# Altium footprint library Texas Instruments Footprints.PcbLib: 429 footprints (part 24 of 32)
Each footprint in its own frame and in the unit in brackets; x right, y up, seen from the top. Pads: shape width x height; smd on the part's side, far side on the other; paste and mask are expansions set on the pad; w line width, h text height; cw(c..) or ccw(c..) is an arc to the next point about the centre after c.
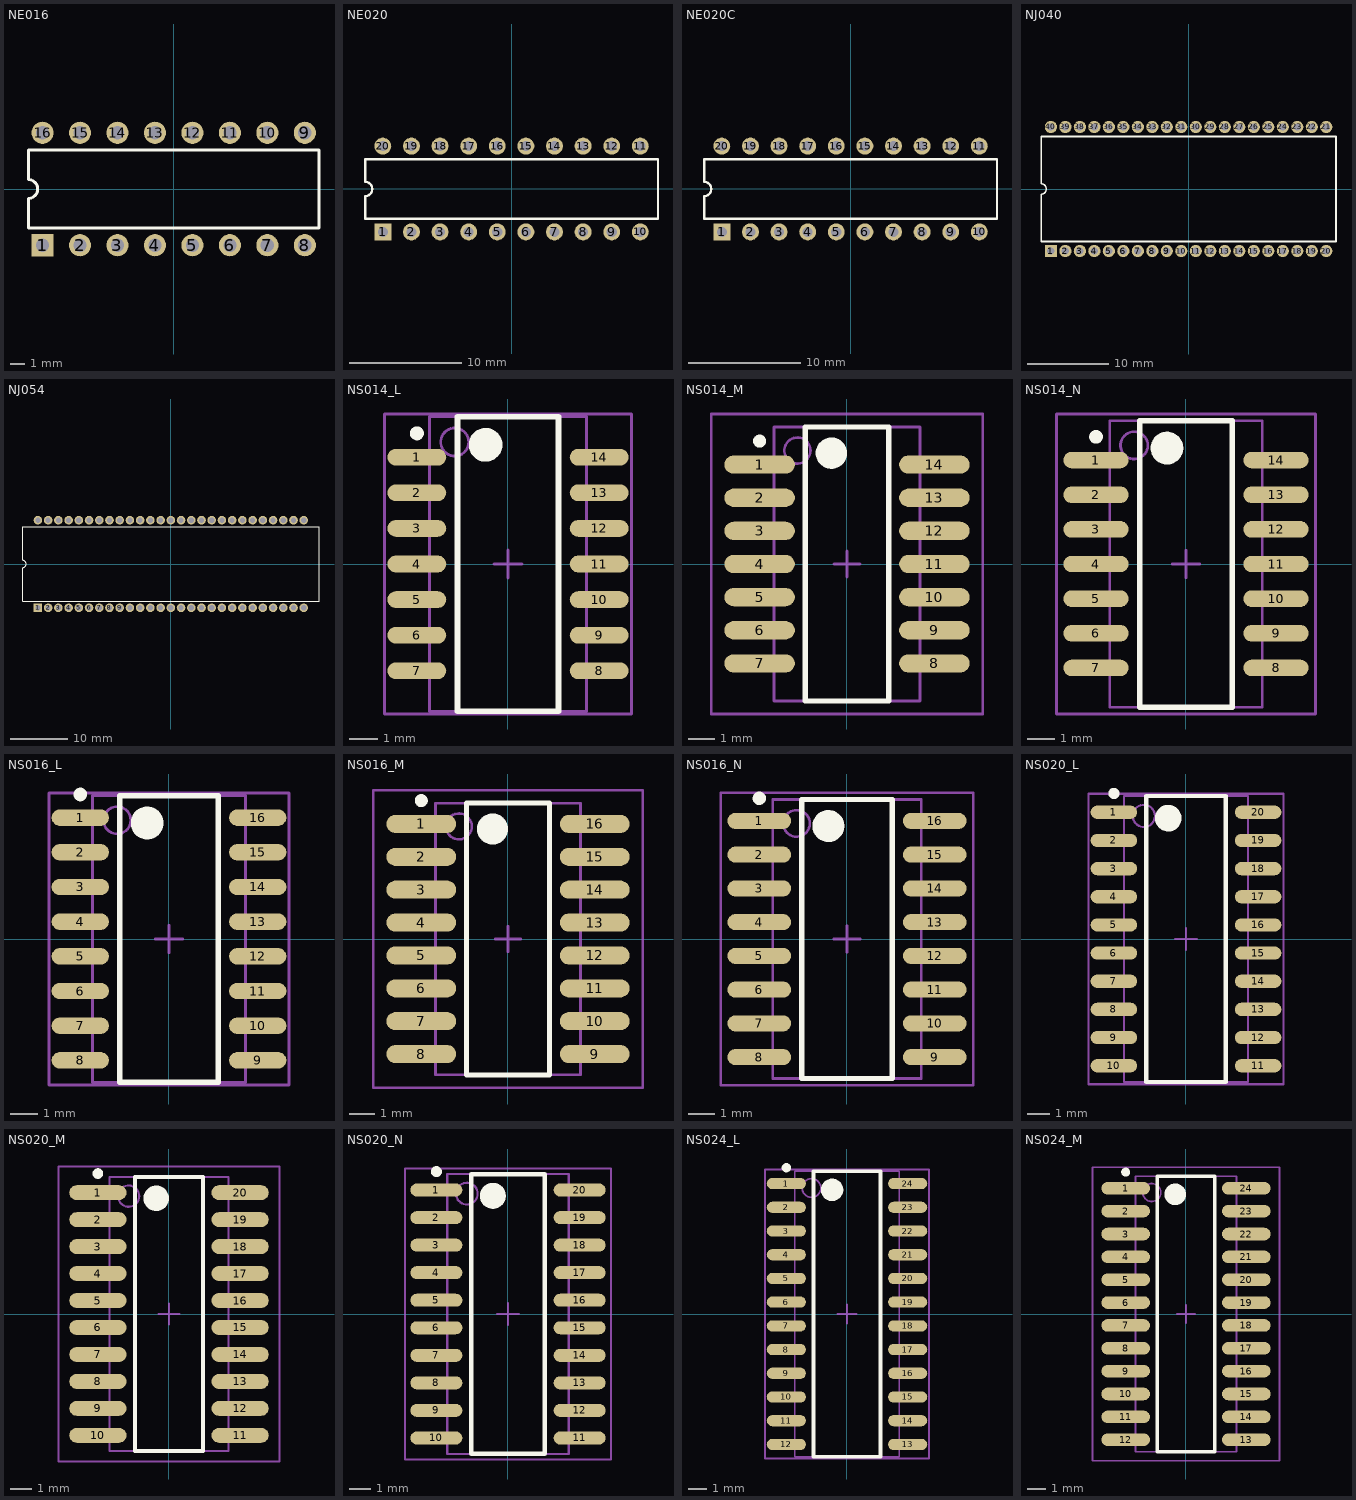
[diagram p23: the footprints below, top view; thin cyan lines are the x and y axes]

## NE016 [mm] "DIP; 16 Leads; Row Spacing 7.62 mm; Pitch 2.54 mm"
height 5.08
pads (16):
  rect 1.5x1.5 hole 0.9: 1(-8.89,-3.81)
  round 1.5 hole 0.9: 2(-6.35,-3.81) 3(-3.81,-3.81) 4(-1.27,-3.81) 5(1.27,-3.81) 6(3.81,-3.81) 7(6.35,-3.81) 8(8.89,-3.81) 9(8.89,3.81) 10(6.35,3.81) 11(3.81,3.81) 12(1.27,3.81) 13(-1.27,3.81) 14(-3.81,3.81) 15(-6.35,3.81) 16(-8.89,3.81)
Top Overlay:
  lines w0.2: -9.85,-2.65 9.85,-2.65 9.85,2.65 -9.85,2.65 -9.85,0.635 cw(c-9.85,0) -9.85,-0.635 -9.85,-2.65

## NE020 [mm] "DIP; 20 Leads; Row Spacing 7.62 mm; Pitch 2.54 mm"
height 5.08
pads (20):
  rect 1.5x1.5 hole 0.9: 1(-11.43,-3.81)
  round 1.5 hole 0.9: 2(-8.89,-3.81) 3(-6.35,-3.81) 4(-3.81,-3.81) 5(-1.27,-3.81) 6(1.27,-3.81) 7(3.81,-3.81) 8(6.35,-3.81) 9(8.89,-3.81) 10(11.43,-3.81) 11(11.43,3.81) 12(8.89,3.81) 13(6.35,3.81) 14(3.81,3.81) 15(1.27,3.81) 16(-1.27,3.81) 17(-3.81,3.81) 18(-6.35,3.81) 19(-8.89,3.81) 20(-11.43,3.81)
Top Overlay:
  lines w0.2: -13,-2.65 -13,-0.635 ccw(c-13,0) -13,0.635 -13,2.65 13,2.65 13,-2.65 -13,-2.65

## NE020C [mm] "DIP; 20 Leads; Row Spacing 7.62 mm; Pitch 2.54 mm"
height 5.08
pads (20):
  rect 1.5x1.5 hole 0.9: 1(-11.43,-3.81)
  round 1.5 hole 0.9: 2(-8.89,-3.81) 3(-6.35,-3.81) 4(-3.81,-3.81) 5(-1.27,-3.81) 6(1.27,-3.81) 7(3.81,-3.81) 8(6.35,-3.81) 9(8.89,-3.81) 10(11.43,-3.81) 11(11.43,3.81) 12(8.89,3.81) 13(6.35,3.81) 14(3.81,3.81) 15(1.27,3.81) 16(-1.27,3.81) 17(-3.81,3.81) 18(-6.35,3.81) 19(-8.89,3.81) 20(-11.43,3.81)
Top Overlay:
  lines w0.2: -13,-2.65 -13,-0.635 ccw(c-13,0) -13,0.635 -13,2.65 13,2.65 13,-2.65 -13,-2.65

## NJ040 [mm] "DIP; 40 Leads; Row Spacing 15.24 mm; Pitch 1.78 mm"
height 5.08
pads (40):
  rect 1.5x1.5 hole 0.9: 1(-16.91,-7.62)
  round 1.5 hole 0.9: 2(-15.13,-7.62) 3(-13.35,-7.62) 4(-11.57,-7.62) 5(-9.79,-7.62) 6(-8.01,-7.62) 7(-6.23,-7.62) 8(-4.45,-7.62) 9(-2.67,-7.62) 10(-0.89,-7.62) 11(0.89,-7.62) 12(2.67,-7.62) 13(4.45,-7.62) 14(6.23,-7.62) 15(8.01,-7.62) 16(9.79,-7.62) 17(11.57,-7.62) 18(13.35,-7.62) 19(15.13,-7.62) 20(16.91,-7.62) 21(16.91,7.62) 22(15.13,7.62) 23(13.35,7.62) 24(11.57,7.62) 25(9.79,7.62) 26(8.01,7.62) 27(6.23,7.62) 28(4.45,7.62) 29(2.67,7.62) 30(0.89,7.62) 31(-0.89,7.62) 32(-2.67,7.62) 33(-4.45,7.62) 34(-6.23,7.62) 35(-8.01,7.62) 36(-9.79,7.62) 37(-11.57,7.62) 38(-13.35,7.62) 39(-15.13,7.62) 40(-16.91,7.62)
Top Overlay:
  lines w0.2: -18.1,-6.45 -18.1,-0.635 ccw(c-18.1,0) -18.1,0.635 -18.1,6.45 18.1,6.45 18.1,-6.45 -18.1,-6.45

## NJ054 [mm] "DIP; 54 Leads; Row Spacing 15.24 mm; Pitch 1.78 mm"
height 5.08
pads (54):
  rect 1.5x1.5 hole 0.9: 1(-23.14,-7.62)
  round 1.5 hole 0.9: 2(-21.36,-7.62) 3(-19.58,-7.62) 4(-17.8,-7.62) 5(-16.02,-7.62) 6(-14.24,-7.62) 7(-12.46,-7.62) 8(-10.68,-7.62) 9(-8.9,-7.62) 10(-7.12,-7.62) 11(-5.34,-7.62) 12(-3.56,-7.62) 13(-1.78,-7.62) 14(0,-7.62) 15(1.78,-7.62) 16(3.56,-7.62) 17(5.34,-7.62) 18(7.12,-7.62) 19(8.9,-7.62) 20(10.68,-7.62) 21(12.46,-7.62) 22(14.24,-7.62) 23(16.02,-7.62) 24(17.8,-7.62) 25(19.58,-7.62) 26(21.36,-7.62) 27(23.14,-7.62) 28(23.14,7.62) 29(21.36,7.62) 30(19.58,7.62) 31(17.8,7.62) 32(16.02,7.62) 33(14.24,7.62) 34(12.46,7.62) 35(10.68,7.62) 36(8.9,7.62) 37(7.12,7.62) 38(5.34,7.62) 39(3.56,7.62) 40(1.78,7.62) 41(0,7.62) 42(-1.78,7.62) 43(-3.56,7.62) 44(-5.34,7.62) 45(-7.12,7.62) 46(-8.9,7.62) 47(-10.68,7.62) 48(-12.46,7.62) 49(-14.24,7.62) 50(-16.02,7.62) 51(-17.8,7.62) 52(-19.58,7.62) 53(-21.36,7.62) 54(-23.14,7.62)
Top Overlay:
  lines w0.2: -25.8,-6.45 -25.8,-0.635 ccw(c-25.8,0) -25.8,0.635 -25.8,6.45 25.8,6.45 25.8,-6.45 -25.8,-6.45

## NS014_L [mm] "14-Pin Small Outline Package 1.27 mm Pitch, IPC High Density"
height 2
pads (14):
  oval 2.1x0.6 smd: 1(-3.25,3.81) 2(-3.25,2.54) 3(-3.25,1.27) 4(-3.25,0) 5(-3.25,-1.27) 6(-3.25,-2.54) 7(-3.25,-3.81) 8(3.25,-3.81) 9(3.25,-2.54) 10(3.25,-1.27) 11(3.25,0) 12(3.25,1.27) 13(3.25,2.54) 14(3.25,3.81)
Top Overlay:
  circle w0.25: c-3.25,4.66 r0.125
  circle w0.6: c-0.8,4.25 r0.3
  lines w0.2: -1.8,-5.25 -1.8,5.25 1.8,5.25 1.8,-5.25 -1.8,-5.25
Mechanical 13:
  circle w0.1: c-1.9,4.35 r0.5
  lines w0.1: -2.8,-5.25 -2.8,5.25 2.8,5.25 2.8,-5.25 -2.8,-5.25
Mechanical 15:
  lines w0.1: -0.5,0 0.5,0 ; 0,-0.5 0,0.5 ; -4.4,-5.35 -4.4,5.35 4.4,5.35 4.4,-5.35 -4.4,-5.35
3D body: height 2, standoff 0, extent -2.8,-5.25 2.8,5.25

## NS014_M [mm] "14-Pin Small Outline Package 1.27 mm Pitch, IPC Low Density"
height 2
pads (14):
  oval 2.7x0.7 smd: 1(-3.35,3.81) 2(-3.35,2.54) 3(-3.35,1.27) 4(-3.35,0) 5(-3.35,-1.27) 6(-3.35,-2.54) 7(-3.35,-3.81) 8(3.35,-3.81) 9(3.35,-2.54) 10(3.35,-1.27) 11(3.35,0) 12(3.35,1.27) 13(3.35,2.54) 14(3.35,3.81)
Top Overlay:
  circle w0.6: c-0.6,4.25 r0.3
  circle w0.25: c-3.35,4.71 r0.125
  lines w0.2: -1.6,-5.25 1.6,-5.25 1.6,5.25 -1.6,5.25 -1.6,-5.25
Mechanical 13:
  circle w0.1: c-1.9,4.35 r0.5
  lines w0.1: -2.8,-5.25 2.8,-5.25 2.8,5.25 -2.8,5.25 -2.8,-5.25
Mechanical 15:
  lines w0.1: -0.5,0 0.5,0 ; 0,-0.5 0,0.5 ; -5.2,-5.75 5.2,-5.75 5.2,5.75 -5.2,5.75 -5.2,-5.75
3D body: height 2, standoff 0, extent -2.8,-5.25 2.8,5.25

## NS014_N [mm] "14-Pin Small Outline Package 1.27 mm Pitch, IPC Medium Density"
height 2
pads (14):
  oval 2.4x0.6 smd: 1(-3.3,3.81) 2(-3.3,2.54) 3(-3.3,1.27) 4(-3.3,0) 5(-3.3,-1.27) 6(-3.3,-2.54) 7(-3.3,-3.81) 8(3.3,-3.81) 9(3.3,-2.54) 10(3.3,-1.27) 11(3.3,0) 12(3.3,1.27) 13(3.3,2.54) 14(3.3,3.81)
Top Overlay:
  circle w0.25: c-3.3,4.66 r0.125
  circle w0.6: c-0.7,4.25 r0.3
  lines w0.2: -1.7,-5.25 -1.7,5.25 1.7,5.25 1.7,-5.25 -1.7,-5.25
Mechanical 13:
  circle w0.1: c-1.9,4.35 r0.5
  lines w0.1: -2.8,-5.25 -2.8,5.25 2.8,5.25 2.8,-5.25 -2.8,-5.25
Mechanical 15:
  lines w0.1: -0.5,0 0.5,0 ; 0,-0.5 0,0.5 ; -4.75,-5.5 -4.75,5.5 4.75,5.5 4.75,-5.5 -4.75,-5.5
3D body: height 2, standoff 0, extent -2.8,-5.25 2.8,5.25

## NS016_L [mm] "16-Pin Small Outline Package 1.27 mm Pitch, IPC High Density"
height 2
pads (16):
  oval 2.1x0.6 smd: 1(-3.25,4.445) 2(-3.25,3.175) 3(-3.25,1.905) 4(-3.25,0.635) 5(-3.25,-0.635) 6(-3.25,-1.905) 7(-3.25,-3.175) 8(-3.25,-4.445) 9(3.25,-4.445) 10(3.25,-3.175) 11(3.25,-1.905) 12(3.25,-0.635) 13(3.25,0.635) 14(3.25,1.905) 15(3.25,3.175) 16(3.25,4.445)
Top Overlay:
  circle w0.25: c-3.25,5.295 r0.125
  circle w0.6: c-0.8,4.25 r0.3
  lines w0.2: -1.8,-5.25 -1.8,5.25 1.8,5.25 1.8,-5.25 -1.8,-5.25
Mechanical 13:
  circle w0.1: c-1.9,4.35 r0.5
  lines w0.1: -2.8,-5.25 -2.8,5.25 2.8,5.25 2.8,-5.25 -2.8,-5.25
Mechanical 15:
  lines w0.1: -0.5,0 0.5,0 ; 0,-0.5 0,0.5 ; -4.4,-5.35 -4.4,5.35 4.4,5.35 4.4,-5.35 -4.4,-5.35
3D body: height 2, standoff 0, extent -2.8,-5.25 2.8,5.25

## NS016_M [mm] "16-Pin Small Outline Package 1.27 mm Pitch, IPC Low Density"
height 2
pads (16):
  oval 2.7x0.7 smd: 1(-3.35,4.445) 2(-3.35,3.175) 3(-3.35,1.905) 4(-3.35,0.635) 5(-3.35,-0.635) 6(-3.35,-1.905) 7(-3.35,-3.175) 8(-3.35,-4.445) 9(3.35,-4.445) 10(3.35,-3.175) 11(3.35,-1.905) 12(3.35,-0.635) 13(3.35,0.635) 14(3.35,1.905) 15(3.35,3.175) 16(3.35,4.445)
Top Overlay:
  circle w0.6: c-0.6,4.25 r0.3
  circle w0.25: c-3.35,5.345 r0.125
  lines w0.2: -1.6,-5.25 1.6,-5.25 1.6,5.25 -1.6,5.25 -1.6,-5.25
Mechanical 13:
  circle w0.1: c-1.9,4.35 r0.5
  lines w0.1: -2.8,-5.25 2.8,-5.25 2.8,5.25 -2.8,5.25 -2.8,-5.25
Mechanical 15:
  lines w0.1: -0.5,0 0.5,0 ; 0,-0.5 0,0.5 ; -5.2,-5.75 5.2,-5.75 5.2,5.75 -5.2,5.75 -5.2,-5.75
3D body: height 2, standoff 0, extent -2.8,-5.25 2.8,5.25

## NS016_N [mm] "16-Pin Small Outline Package 1.27 mm Pitch, IPC Medium Density"
height 2
pads (16):
  oval 2.4x0.6 smd: 1(-3.3,4.445) 2(-3.3,3.175) 3(-3.3,1.905) 4(-3.3,0.635) 5(-3.3,-0.635) 6(-3.3,-1.905) 7(-3.3,-3.175) 8(-3.3,-4.445) 9(3.3,-4.445) 10(3.3,-3.175) 11(3.3,-1.905) 12(3.3,-0.635) 13(3.3,0.635) 14(3.3,1.905) 15(3.3,3.175) 16(3.3,4.445)
Top Overlay:
  circle w0.25: c-3.3,5.295 r0.125
  circle w0.6: c-0.7,4.25 r0.3
  lines w0.2: -1.7,-5.25 -1.7,5.25 1.7,5.25 1.7,-5.25 -1.7,-5.25
Mechanical 13:
  circle w0.1: c-1.9,4.35 r0.5
  lines w0.1: -2.8,-5.25 -2.8,5.25 2.8,5.25 2.8,-5.25 -2.8,-5.25
Mechanical 15:
  lines w0.1: -0.5,0 0.5,0 ; 0,-0.5 0,0.5 ; -4.75,-5.5 -4.75,5.5 4.75,5.5 4.75,-5.5 -4.75,-5.5
3D body: height 2, standoff 0, extent -2.8,-5.25 2.8,5.25

## NS020_L [mm] "20-Pin Small Outline Package 1.27 mm Pitch, IPC High Density"
height 2
pads (20):
  oval 2.1x0.6 smd: 1(-3.25,5.715) 2(-3.25,4.445) 3(-3.25,3.175) 4(-3.25,1.905) 5(-3.25,0.635) 6(-3.25,-0.635) 7(-3.25,-1.905) 8(-3.25,-3.175) 9(-3.25,-4.445) 10(-3.25,-5.715) 11(3.25,-5.715) 12(3.25,-4.445) 13(3.25,-3.175) 14(3.25,-1.905) 15(3.25,-0.635) 16(3.25,0.635) 17(3.25,1.905) 18(3.25,3.175) 19(3.25,4.445) 20(3.25,5.715)
Top Overlay:
  circle w0.25: c-3.25,6.565 r0.125
  circle w0.6: c-0.8,5.45 r0.3
  lines w0.2: -1.8,-6.45 -1.8,6.45 1.8,6.45 1.8,-6.45 -1.8,-6.45
Mechanical 13:
  circle w0.1: c-1.9,5.55 r0.5
  lines w0.1: -2.8,-6.45 -2.8,6.45 2.8,6.45 2.8,-6.45 -2.8,-6.45
Mechanical 15:
  lines w0.1: -0.5,0 0.5,0 ; 0,-0.5 0,0.5 ; -4.4,-6.55 -4.4,6.55 4.4,6.55 4.4,-6.55 -4.4,-6.55
3D body: height 2, standoff 0, extent -2.8,-6.45 2.8,6.45

## NS020_M [mm] "20-Pin Small Outline Package 1.27 mm Pitch, IPC Low Density"
height 2
pads (20):
  oval 2.7x0.7 smd: 1(-3.35,5.715) 2(-3.35,4.445) 3(-3.35,3.175) 4(-3.35,1.905) 5(-3.35,0.635) 6(-3.35,-0.635) 7(-3.35,-1.905) 8(-3.35,-3.175) 9(-3.35,-4.445) 10(-3.35,-5.715) 11(3.35,-5.715) 12(3.35,-4.445) 13(3.35,-3.175) 14(3.35,-1.905) 15(3.35,-0.635) 16(3.35,0.635) 17(3.35,1.905) 18(3.35,3.175) 19(3.35,4.445) 20(3.35,5.715)
Top Overlay:
  circle w0.25: c-3.35,6.615 r0.125
  circle w0.6: c-0.6,5.45 r0.3
  lines w0.2: -1.6,-6.45 -1.6,6.45 1.6,6.45 1.6,-6.45 -1.6,-6.45
Mechanical 13:
  circle w0.1: c-1.9,5.55 r0.5
  lines w0.1: -2.8,-6.45 -2.8,6.45 2.8,6.45 2.8,-6.45 -2.8,-6.45
Mechanical 15:
  lines w0.1: -0.5,0 0.5,0 ; 0,-0.5 0,0.5 ; -5.2,-6.95 -5.2,6.95 5.2,6.95 5.2,-6.95 -5.2,-6.95
3D body: height 2, standoff 0, extent -2.8,-6.45 2.8,6.45

## NS020_N [mm] "20-Pin Small Outline Package 1.27 mm Pitch, IPC Medium Density"
height 2
pads (20):
  oval 2.4x0.6 smd: 1(-3.3,5.715) 2(-3.3,4.445) 3(-3.3,3.175) 4(-3.3,1.905) 5(-3.3,0.635) 6(-3.3,-0.635) 7(-3.3,-1.905) 8(-3.3,-3.175) 9(-3.3,-4.445) 10(-3.3,-5.715) 11(3.3,-5.715) 12(3.3,-4.445) 13(3.3,-3.175) 14(3.3,-1.905) 15(3.3,-0.635) 16(3.3,0.635) 17(3.3,1.905) 18(3.3,3.175) 19(3.3,4.445) 20(3.3,5.715)
Top Overlay:
  circle w0.25: c-3.3,6.565 r0.125
  circle w0.6: c-0.7,5.45 r0.3
  lines w0.2: -1.7,-6.45 -1.7,6.45 1.7,6.45 1.7,-6.45 -1.7,-6.45
Mechanical 13:
  circle w0.1: c-1.9,5.55 r0.5
  lines w0.1: -2.8,-6.45 -2.8,6.45 2.8,6.45 2.8,-6.45 -2.8,-6.45
Mechanical 15:
  lines w0.1: -0.5,0 0.5,0 ; 0,-0.5 0,0.5 ; -4.75,-6.7 -4.75,6.7 4.75,6.7 4.75,-6.7 -4.75,-6.7
3D body: height 2, standoff 0, extent -2.8,-6.45 2.8,6.45

## NS024_L [mm] "24-Pin Small Outline Package 1.27 mm Pitch, IPC High Density"
height 2
pads (24):
  oval 2.1x0.6 smd: 1(-3.25,6.985) 2(-3.25,5.715) 3(-3.25,4.445) 4(-3.25,3.175) 5(-3.25,1.905) 6(-3.25,0.635) 7(-3.25,-0.635) 8(-3.25,-1.905) 9(-3.25,-3.175) 10(-3.25,-4.445) 11(-3.25,-5.715) 12(-3.25,-6.985) 13(3.25,-6.985) 14(3.25,-5.715) 15(3.25,-4.445) 16(3.25,-3.175) 17(3.25,-1.905) 18(3.25,-0.635) 19(3.25,0.635) 20(3.25,1.905) 21(3.25,3.175) 22(3.25,4.445) 23(3.25,5.715) 24(3.25,6.985)
Top Overlay:
  circle w0.25: c-3.25,7.835 r0.125
  circle w0.6: c-0.8,6.65 r0.3
  lines w0.2: -1.8,-7.65 -1.8,7.65 1.8,7.65 1.8,-7.65 -1.8,-7.65
Mechanical 13:
  circle w0.1: c-1.9,6.75 r0.5
  lines w0.1: -2.8,-7.65 -2.8,7.65 2.8,7.65 2.8,-7.65 -2.8,-7.65
Mechanical 15:
  lines w0.1: -0.5,0 0.5,0 ; 0,-0.5 0,0.5 ; -4.4,-7.75 -4.4,7.75 4.4,7.75 4.4,-7.75 -4.4,-7.75
3D body: height 2, standoff 0, extent -2.8,-7.65 2.8,7.65

## NS024_M [mm] "24-Pin Small Outline Package 1.27 mm Pitch, IPC Low Density"
height 2
pads (24):
  oval 2.7x0.7 smd: 1(-3.35,6.985) 2(-3.35,5.715) 3(-3.35,4.445) 4(-3.35,3.175) 5(-3.35,1.905) 6(-3.35,0.635) 7(-3.35,-0.635) 8(-3.35,-1.905) 9(-3.35,-3.175) 10(-3.35,-4.445) 11(-3.35,-5.715) 12(-3.35,-6.985) 13(3.35,-6.985) 14(3.35,-5.715) 15(3.35,-4.445) 16(3.35,-3.175) 17(3.35,-1.905) 18(3.35,-0.635) 19(3.35,0.635) 20(3.35,1.905) 21(3.35,3.175) 22(3.35,4.445) 23(3.35,5.715) 24(3.35,6.985)
Top Overlay:
  circle w0.6: c-0.6,6.65 r0.3
  circle w0.25: c-3.35,7.885 r0.125
  lines w0.2: -1.6,-7.65 1.6,-7.65 1.6,7.65 -1.6,7.65 -1.6,-7.65
Mechanical 13:
  circle w0.1: c-1.9,6.75 r0.5
  lines w0.1: -2.8,-7.65 2.8,-7.65 2.8,7.65 -2.8,7.65 -2.8,-7.65
Mechanical 15:
  lines w0.1: -0.5,0 0.5,0 ; 0,-0.5 0,0.5 ; -5.2,-8.15 5.2,-8.15 5.2,8.15 -5.2,8.15 -5.2,-8.15
3D body: height 2, standoff 0, extent -2.8,-7.65 2.8,7.65